# Altium footprint library 三电平变换器.PCBLIB: 98 footprints (part 3 of 7)
Each footprint in its own frame and in the unit in brackets; x right, y up, seen from the top. Pads: shape width x height; smd on the part's side, far side on the other; paste and mask are expansions set on the pad; w line width, h text height; cw(c..) or ccw(c..) is an arc to the next point about the centre after c.
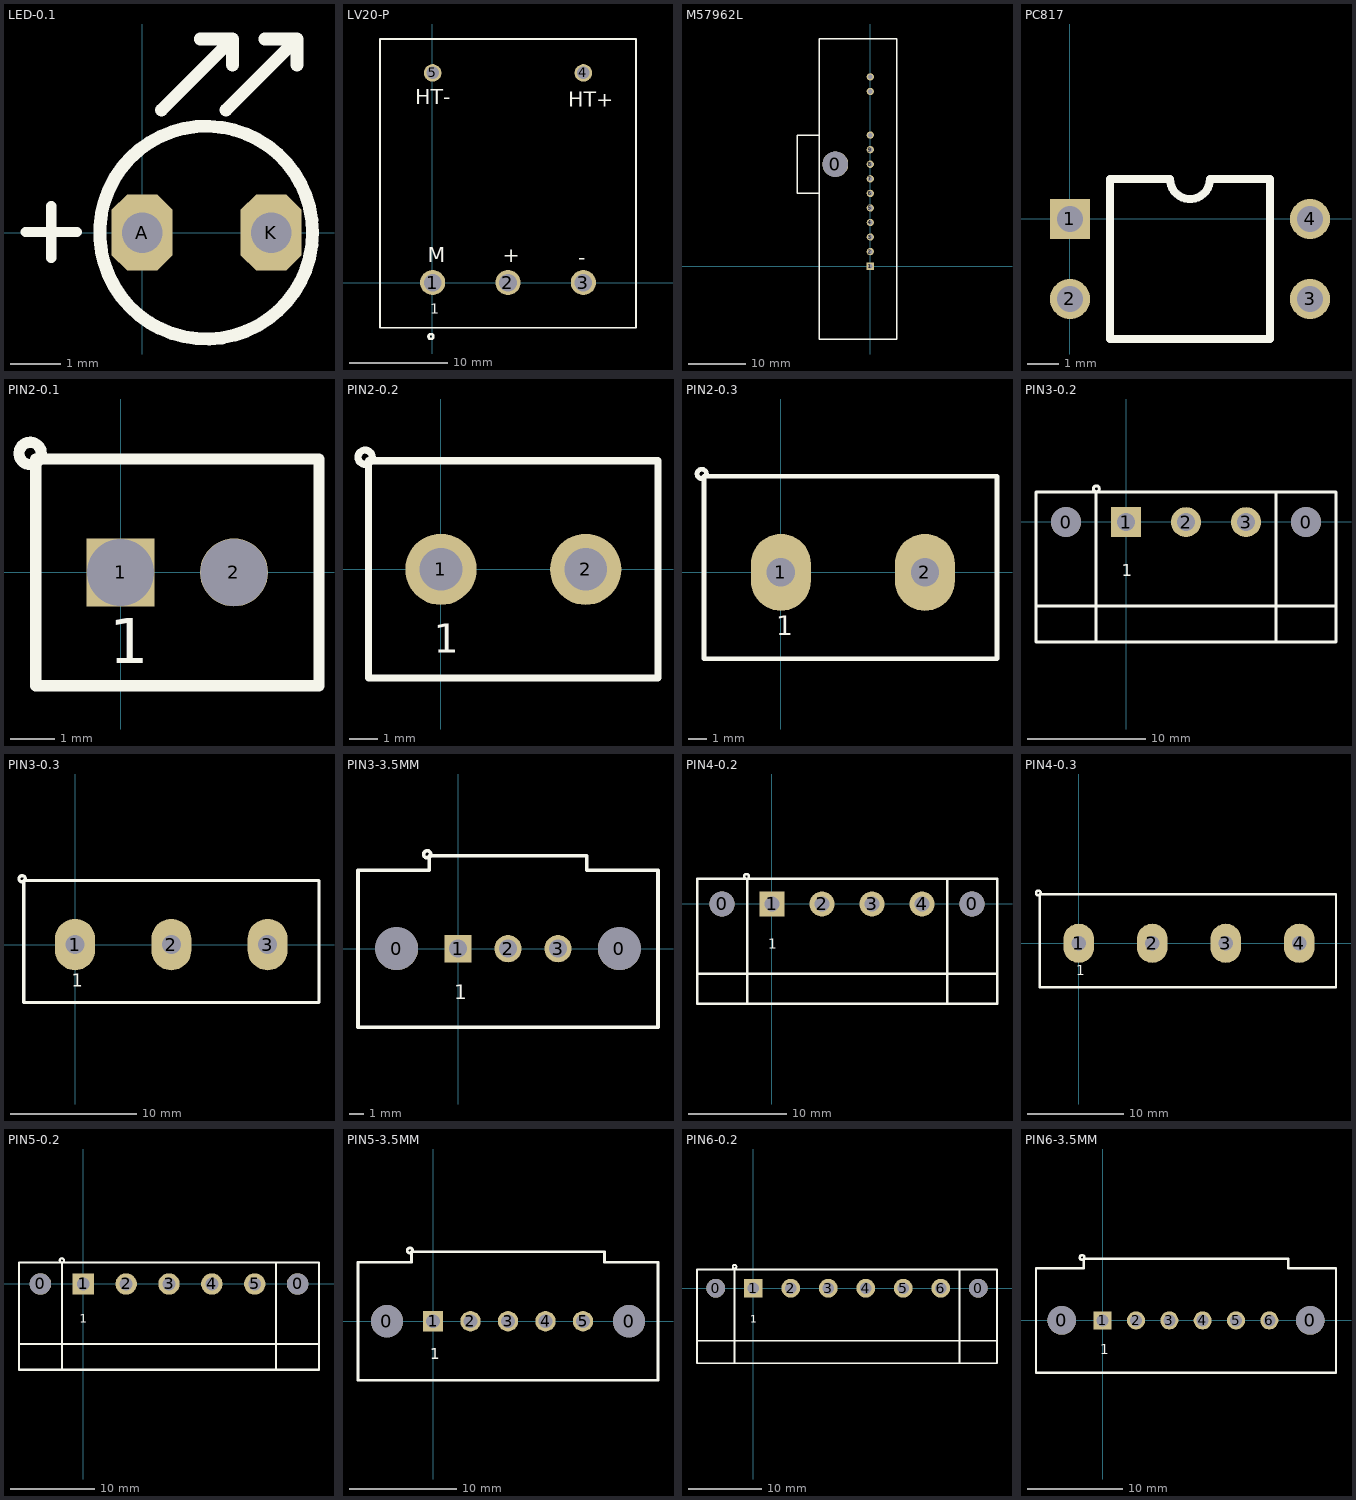
[diagram p2: the footprints below, top view; thin cyan lines are the x and y axes]

## LED-0.1 [mm]
pads (2):
  oct 1.2x1.5 hole 0.8: A(0,0) K(2.54,0)
TopOverlay:
  circle w0.254: c1.259,0 r2.095
  lines w0.2: -2.297,0.01 -1.789,0.01 -1.281,0.01 ; -1.789,-0.498 -1.789,0.518
  lines w0.254: 0.381,2.413 1.778,3.81 ; 1.143,3.81 1.778,3.81 ; 1.651,2.413 3.048,3.81 ; 1.778,3.302 1.778,3.81 ; 2.413,3.81 3.048,3.81 ; 3.048,3.302 3.048,3.81

## LV20-P [mil]
pads (5):
  round 100 hole 70: 1(2,0) 2(302,0) 3(602,0)
  round 70 hole 50: 4(602,835) 5(2,835)
TopOverlay:
  circle w9.84: c-4.92,-215 r9.84
  lines w7: -208,-180 812,-180 812,970 -208,970 -208,-180
  text "1" at -8,-124 h40
  text "M" at -18,80 h60
  text "+" at 282,80 h60
  text "-" at 582,70 h60
  text "HT+" at 542,700 h60
  text "HT-" at -68,710 h60

## M57962L [mil]
pads (13):
  round 177 hole 177: 0(-240,700)
  rect 50x50 hole 32: 1(0,0)
  round 50 hole 32: 2(0,100) 3(0,200) 4(0,300) 5(0,400) 6(0,500) 7(0,600) 8(0,700) 9(0,800) 10(0,900) 13(0,1200) 14(0,1300)
TopOverlay:
  lines w10: -353,900 -500,900 -500,500 -351,500 ; -350,-500 180,-500 180,1560 -350,1560 -350,-500

## PC817 [mil]
pads (4):
  rect 50x50 hole 32: 1(0,0)
  round 50 hole 32: 2(0,-100) 3(300,-100) 4(300,0)
TopOverlay:
  lines w10: 50,-150 250,-150 250,50 175,50 cw(c150,50) 125,50 50,50 50,-150

## PIN2-0.1 [mil] "2芯插座, 焊盘间距100mil"
pads (2):
  rect 60x60 hole 59.05: 1(0,0)
  round 60 hole 59.06: 2(100,0)
TopOverlay:
  circle w9.84: c-79.84,105 r9.84
  lines w10: -75,-100 -75,100 175,100 175,-100 -75,-100
  text "1" at -10,-80 h40

## PIN2-0.2 [mm] "2芯插座, 焊盘间距200mil"
pads (2):
  round 2.5 hole 1.5: 1(0,0) 2(5.08,0)
TopOverlay:
  circle w0.25: c-2.663,3.937 r0.25
  lines w0.254: -2.54,-3.81 7.62,-3.81 7.62,3.81 -2.54,3.81 -2.54,-3.81
  text "1" at -0.254,-2.921 h1.02

## PIN2-0.3 [mm] "2芯插座, 焊盘间距300mil"
pads (2):
  oval 3.175x4.064 hole 1.5: 1(0,0) 2(7.62,0)
TopOverlay:
  circle w0.25: c-4.187,5.207 r0.25
  lines w0.254: -4.064,-4.572 -4.064,5.08 11.43,5.08 11.43,-4.572 -4.064,-4.572
  text "1" at -0.254,-3.327 h1.02

## PIN3-0.2 [mil] "3芯插座, 焊盘间距200mil"
pads (5):
  round 100 hole 100: 0(-201,-1) 0(599,-1)
  rect 100x100 hole 60: 1(-1,-1)
  round 100 hole 60: 2(199,-1) 3(399,-1)
TopOverlay:
  circle w9.84: c-99.84,110 r9.84
  lines w10: -301,-281 699,-281 ; -101,-401 -101,99 ; 499,-401 499,99 ; -301,-401 699,-401 699,99 -301,99 -301,-401
  text "1" at -15,-181 h40

## PIN3-0.3 [mm] "3芯插座, 焊盘间距300mil"
pads (3):
  oval 3.175x4.064 hole 1.5: 1(0,0) 2(7.62,0) 3(15.24,0)
TopOverlay:
  circle w0.25: c-4.187,5.207 r0.25
  lines w0.254: -4.064,-4.572 -4.064,5.08 19.304,5.08 19.304,-4.572 -4.064,-4.572
  text "1" at -0.254,-3.327 h1.02

## PIN3-3.5MM [mm] "3芯插座, 焊盘间距3.5mm"
pads (5):
  round 3 hole 3: 0(-4.3,0) 0(11.3,0)
  rect 1.905x1.905 hole 1.27: 1(0,0)
  round 1.905 hole 1.27: 2(3.5,0) 3(7,0)
TopOverlay:
  circle w0.25: c-2.155,6.604 r0.25
  lines w0.254: -7,-5.5 14,-5.5 14,5.5 9,5.5 9,6.5 -2,6.5 -2,5.5 -7,5.5 -7,-5.5
  text "1" at -0.254,-3.531 h1.02

## PIN4-0.2 [mil] "4芯插座, 焊盘间距200mil"
pads (6):
  round 100 hole 100: 0(-198,0) 0(802,0)
  rect 100x100 hole 60: 1(2,0)
  round 100 hole 60: 2(202,0) 3(402,0) 4(602,0)
TopOverlay:
  circle w9.84: c-99.84,110 r9.84
  lines w10: -298,-280 902,-280 ; -98,-400 -98,100 ; 702,-400 702,100 ; -298,-400 -298,100 902,100 902,-400 -298,-400
  text "1" at -14,-180 h40

## PIN4-0.3 [mm] "4芯插座, 焊盘间距300mil"
pads (4):
  oval 3.175x4.064 hole 1.5: 1(0,0) 2(7.62,0) 3(15.24,0) 4(22.86,0)
TopOverlay:
  circle w0.25: c-4.187,5.207 r0.25
  lines w0.254: -4.064,-4.572 26.67,-4.572 26.67,5.08 -4.064,5.08 -4.064,-4.572
  text "1" at -0.254,-3.327 h1.02

## PIN5-0.2 [mil] "5芯插座, 焊盘间距200mil"
pads (7):
  round 100 hole 100: 0(-200,0) 0(1000,0)
  rect 100x100 hole 60: 1(0,0)
  round 100 hole 60: 2(200,0) 3(400,0) 4(600,0) 5(800,0)
TopOverlay:
  circle w9.84: c-99.84,110 r9.84
  lines w10: -300,-280 1100,-280 ; -100,-400 -100,100 ; 900,-400 900,100 ; -300,-400 1100,-400 1100,100 -300,100 -300,-400
  text "1" at -16,-180 h40

## PIN5-3.5MM [mm] "5芯插座, 焊盘间距3.5mm"
pads (7):
  round 3 hole 3: 0(-4.3,0) 0(18.3,0)
  rect 1.905x1.905 hole 1.27: 1(0,0)
  round 1.905 hole 1.27: 2(3.5,0) 3(7,0) 4(10.5,0) 5(14,0)
TopOverlay:
  circle w0.25: c-2.155,6.604 r0.25
  lines w0.254: -7,-5.5 -7,5.5 -2,5.5 -2,6.5 16,6.5 16,5.5 21,5.5 21,-5.5 -7,-5.5
  text "1" at -0.254,-3.531 h1.02

## PIN6-0.2 [mil] "6芯插座, 焊盘间距200mil"
pads (8):
  round 100 hole 100: 0(-200,0) 0(1200,0)
  rect 100x100 hole 60: 1(0,0)
  round 100 hole 60: 2(200,0) 3(400,0) 4(600,0) 5(800,0) 6(1000,0)
TopOverlay:
  circle w9.84: c-99.84,115 r9.84
  lines w10: -300,-280 1300,-280 ; -100,-400 -100,100 ; 1100,-400 1100,100 ; -300,-400 1300,-400 1300,100 -300,100 -300,-400
  text "1" at -16,-185 h40

## PIN6-3.5MM [mm] "6.芯插座, 焊盘间距3.5mm"
pads (8):
  round 3 hole 3: 0(-4.3,0) 0(21.8,0)
  rect 1.905x1.905 hole 1.27: 1(0,0)
  round 1.905 hole 1.27: 2(3.5,0) 3(7,0) 4(10.5,0) 5(14,0) 6(17.5,0)
TopOverlay:
  circle w0.25: c-2.155,6.604 r0.25
  lines w0.254: -7,-5.5 24.5,-5.5 24.5,5.5 19.5,5.5 19.5,6.5 -2,6.5 -2,5.5 -7,5.5 -7,-5.5
  text "1" at -0.254,-3.531 h1.02